# EAGLE library part SSI2190_VC6MIX (library jason_eagle6)
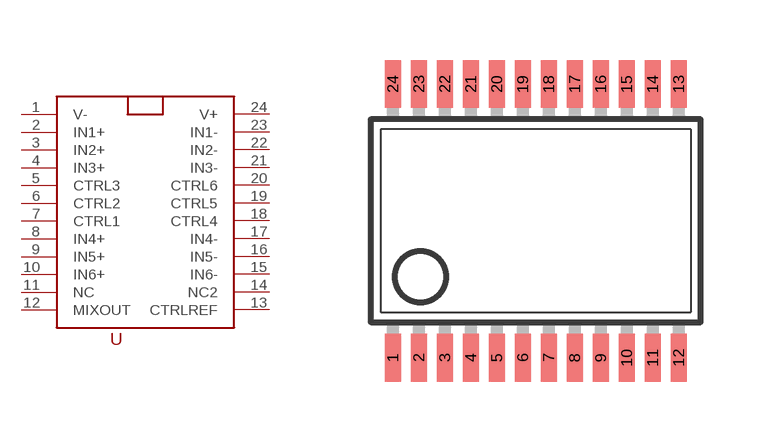
[diagram p74: symbol with the pads of SSOP24; footprint SSOP24]

Designator prefix -

## SSI2190_VC6MIXSSOP24  [SSOP24]
1  V-  pwr
2  IN1+
3  IN2+
4  IN3+
5  CTRL3
6  CTRL2
7  CTRL1
8  IN4+
9  IN5+
10  IN6+
11  NC  nc
12  MIXOUT
13  CTRLREF
14  NC2  nc
15  IN6-
16  IN5-
17  IN4-
18  CTRL4
19  CTRL5
20  CTRL6
21  IN3-
22  IN2-
23  IN1-
24  V+  pwr

## Footprint SSOP24 (pad centres in mm)
Small Shrink Outline Package SOT340-1 / JEDEC MO-150AG
smd 0.4 x 1.2: 1 -3.575,-3.42; 2 -2.925,-3.42; 3 -2.275,-3.42; 4 -1.625,-3.42; 5 -0.975,-3.42; 6 -0.325,-3.42; 7 0.325,-3.42; 8 0.975,-3.42; 9 1.625,-3.42; 10 2.275,-3.42; 11 2.925,-3.42; 12 3.575,-3.42; 13 3.575,3.42; 14 2.925,3.42; 15 2.275,3.42; 16 1.625,3.42; 17 0.975,3.42; 18 0.325,3.42; 19 -0.325,3.42; 20 -0.975,3.42; 21 -1.625,3.42; 22 -2.275,3.42; 23 -2.925,3.42; 24 -3.575,3.42